# Altium footprint library WSON.PcbLib: 1 footprints
Each footprint in its own frame and in the unit in brackets; x right, y up, seen from the top. Pads: shape width x height; smd on the part's side, far side on the other; paste and mask are expansions set on the pad; w line width, h text height; cw(c..) or ccw(c..) is an arc to the next point about the centre after c.
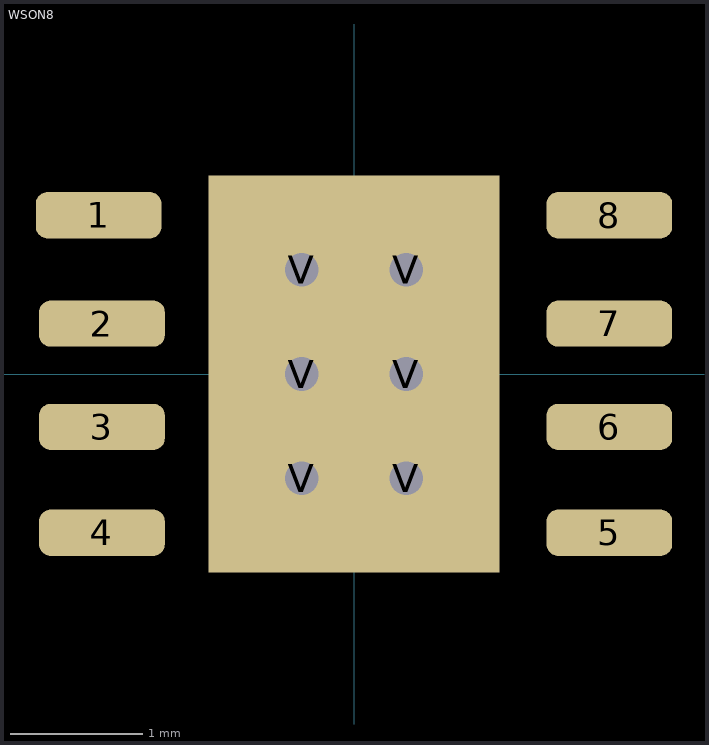
[diagram p0: the footprint, top view; thin cyan lines are the x and y axes]

## WSON8 [mil]
pads (15):
  rrect50% 37.4x13.78 smd: 1(-75.99,47.24) 2(-75,15) 3(-75,-15.75) 4(-75,-47.24) 5(75.99,-47.24) 6(75.99,-15.75) 7(75.99,15) 8(75.99,47.24)
  round 20 / inner round 60 / far side round 20 hole 10: V(-15.5,-31) V(-15.5,0) V(-15.5,31) V(15.5,-31) V(15.5,0) V(15.5,31)
  rect 86.61x118.11 smd paste-58.56 mask-58.5: ""(0,0)
Top Layer:
  region: 0,59.06
  region: 0,-59.05
Top Paste:
  region: 0,59.06
  region: 0,-59.05
  region: -19.44,56.11 -40.36,56.11 -40.36,34.94 -25,34.94 -19.44,40.5
  region: -25,27.06 -40.36,27.06 -40.36,3.94 -25,3.94 -19.44,9.5 -19.44,21.5
  region: -25,-3.94 -40.36,-3.94 -40.36,-27.06 -25,-27.06 -19.44,-21.5 -19.44,-9.5
  region: -25,-34.94 -40.36,-34.94 -40.36,-56.1 -19.44,-56.1 -19.44,-40.5
  region: 11.56,56.11 -11.56,56.11 -11.56,40.5 -6,34.94 6,34.94 11.56,40.5
  region: 6,27.06 -6,27.06 -11.56,21.5 -11.56,9.5 -6,3.94 6,3.94 11.56,9.5 11.56,21.5
  region: 6,-3.94 -6,-3.94 -11.56,-9.5 -11.56,-21.5 -6,-27.06 6,-27.06 11.56,-21.5 11.56,-9.5
  region: 6,-34.94 -6,-34.94 -11.56,-40.5 -11.56,-56.1 11.56,-56.1 11.56,-40.5
  region: 40.36,56.11 19.44,56.11 19.44,40.5 25,34.94 40.36,34.94
  region: 40.36,27.06 25,27.06 19.44,21.5 19.44,9.5 25,3.94 40.36,3.94
  region: 40.36,-3.94 25,-3.94 19.44,-9.5 19.44,-21.5 25,-27.06 40.36,-27.06
  region: 40.36,-34.94 25,-34.94 19.44,-40.5 19.44,-56.1 40.36,-56.1
Top Solder:
  region: 0,59.06
  region: 0,-59.05
  region: -45.81,38.87 -45.81,61.56 45.81,61.56 45.81,38.87
  region: -45.81,7.87 -45.81,23.13 45.81,23.13 45.81,7.87
  region: -45.81,-23.13 -45.81,-7.87 45.81,-7.87 45.81,-23.13
  region: -45.81,-61.55 -45.81,-38.87 45.81,-38.87 45.81,-61.55
  region: -45.81,-61.55 -45.81,61.56 -23.37,61.56 -23.37,-61.55
  region: 7.63,-61.55 7.63,61.56 -7.63,61.56 -7.63,-61.55
  region: 23.37,-61.55 23.37,61.56 45.81,61.56 45.81,-61.55
3D body "DRJ8_2P2X3.stp": height 67.1, standoff 0, extent -92.45,-80.71 92.46,80.71